# Altium schematic symbol library XB3-24Z8UM-J.SchLib: 1 symbol
Pins are listed as number, name and electrical type; pins without a type are passive.

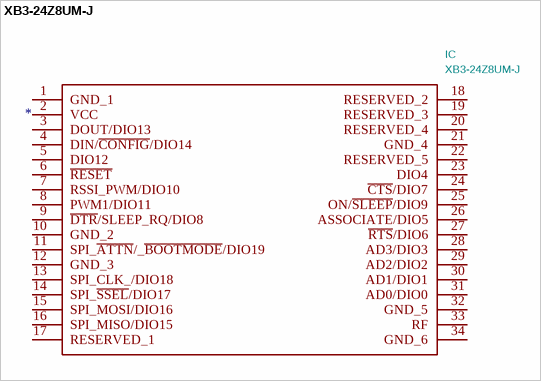
[diagram p0: symbol XB3-24Z8UM-J]

## XB3-24Z8UM-J
designator IC  value XB3-24Z8UM-J
Zigbee Modules (802.15.4) XBee3,2.4 Ghz ZB 3.0, U.FL Ant, MMT; Manufacturer_Name: Digi International; Footprint: XB324Z8CMJ; Supplier: http://www.mouser.com/datasheet/2/111/ds_xbee-3-zigbee-3-1288823.pdf; Description_: Zigbee Modules (802.15.4) XBee3,2.4 Ghz ZB 3.0, U.FL Ant, MMT; Height: 4; Manufacturer_Part_Number: XB3-24Z8UM-J; Mouser Part Number: 888-XB3-24Z8UM-J; Mouser Price/Stock: https://www.mouser.com/Search/Refine.aspx?Keyword=888-XB3-24Z8UM-J
footprint XB324Z8CMJ
pins: 1 GND_1, 2 VCC, 3 DOUT/DIO13, 4 DIN/~{CONFIG}/DIO14, 5 DIO12, 6 ~{RESET}, 7 RSSI_PWM/DIO10, 8 PWM1/DIO11, 9 ~{DTR}/SLEEP_RQ/DIO8, 10 GND_2, 11 SPI_~{ATTN}/_~{BOOTMODE}/DIO19, 12 GND_3, 13 SPI_CLK_/DIO18, 14 SPI_~{SSEL}/DIO17, 15 SPI_MOSI/DIO16, 16 SPI_MISO/DIO15, 17 RESERVED_1, 18 RESERVED_2, 19 RESERVED_3, 20 RESERVED_4, 21 GND_4, 22 RESERVED_5, 23 DIO4, 24 ~{CTS}/DIO7, 25 ON/~{SLEEP}/DIO9, 26 ASSOCIATE/DIO5, 27 ~{RTS}/DIO6, 28 AD3/DIO3, 29 AD2/DIO2, 30 AD1/DIO1, 31 AD0/DIO0, 32 GND_5, 33 RF, 34 GND_6